# Altium schematic symbol library SCH - POWER - SWITCHMODE - TI TPS54386_PWP_14.SchLib: 1 symbol
Pins are listed as number, name and electrical type; pins without a type are passive.

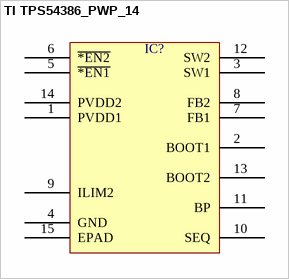
[diagram p0: symbol TI TPS54386_PWP_14]

## TI TPS54386_PWP_14
designator IC?  (value not drawn)
pins: 1 PVDD1, 2 BOOT1, 3 SW1, 4 GND, 5 ~{*EN1}, 6 ~{*EN2}, 7 FB1, 8 FB2, 9 ILIM2, 10 SEQ, 11 BP, 12 SW2, 13 BOOT2, 14 PVDD2, 15 EPAD